# EAGLE library part JST-XH254-6P (library my_devices)
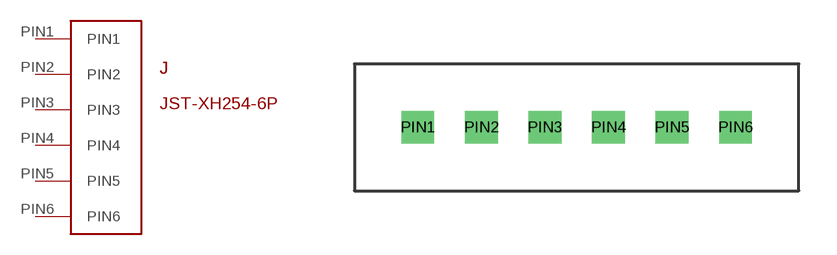
[diagram p27: symbol with the pads of JST-XH254-6P; footprint JST-XH254-6P]

Designator prefix J

## JST-XH254-6P  [JST-XH254-6P]
PIN1  PIN1
PIN2  PIN2
PIN3  PIN3
PIN4  PIN4
PIN5  PIN5
PIN6  PIN6

## Footprint JST-XH254-6P (pad centres in mm)
drill 0.8 square: PIN1 -3.81,0; PIN2 -1.27,0; PIN3 1.27,0; PIN4 3.81,0; PIN5 6.35,0; PIN6 8.89,0